# Altium schematic symbol library SensWearComponents.SchLib: 59 symbols (part 2 of 2)
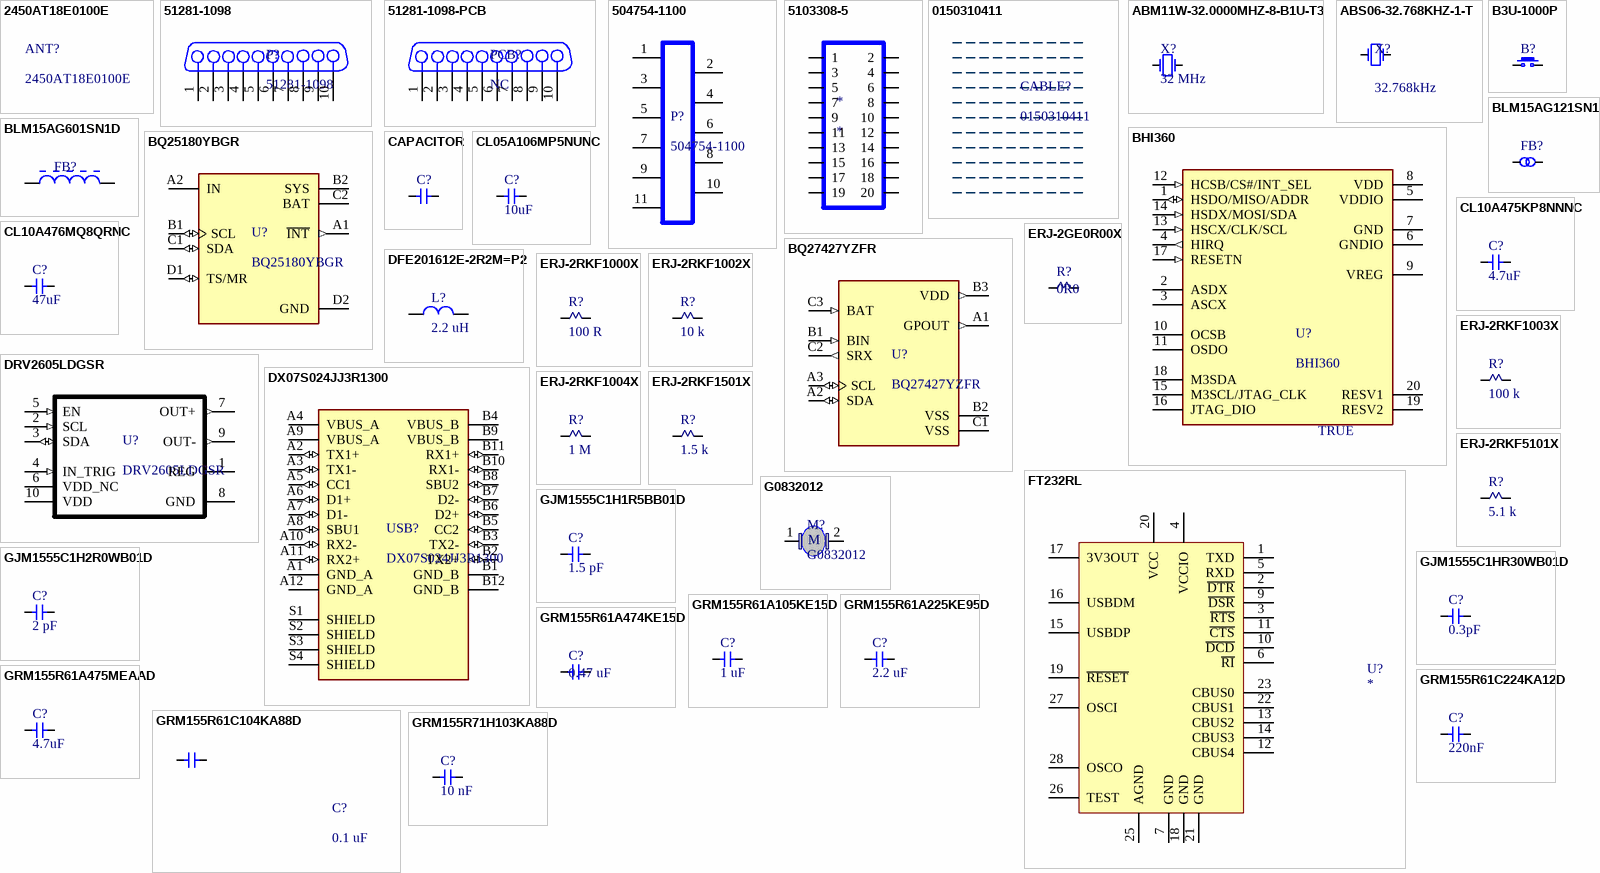
[diagram p2: symbols 2450AT18E0100E to GRM155R71H103KA88D]

## GRM155R61A475MEAAD
designator C?, comment 4.7uF
Multilayer Ceramic Capacitor, 4.7 uF, 10 V, ± 20%, X5R, 0402 [1005 Metric]; Manufacturer: Murata; Manufacturer Part Number: GRM155R61A475MEAAD; Material: 4241ConductorMaterial; Voltage Rating: 10V; Dielectric: 1537DielectricType; RoHS: Yes; Category: Ceramic Capacitors; Stock: 930000; Pricing: 10000=0,0187, 50000=0,0159, 100000=0,0132 (USD); Mounting Technology: Surface Mount; Case/Package: 0402; Case Code (Imperial): 0402; Case Code (Metric): 1005; Min Operating Temperature: -55°C; Max Operating Temperature: 85°C; Packaging: Tape and Reel; Value: 4.7uF; Tolerance: 20%; Series: GRM; Voltage Rating (DC): 10V; Length: 1mm; Width: 500um; Height: 650um; Thickness: 500um; RoHS Compliant: Yes; ComponentLink1URL: http://www.farnell.com/datasheets/2189109.pdf?src-supplier=Farnell; ComponentLink1Description: http://www.farnell.com/datasheets/2189109.pdf?src-supplier=Farnell; ComponentLink2URL: http://www.farnell.com/datasheets/2189109.pdf?src-supplier=Newark; ComponentLink2Description: http://www.farnell.com/datasheets/2189109.pdf?src-supplier=Newark; ComponentLink3URL: http://www.farnell.com/datasheets/2189109.pdf?src-supplier=Element14; ComponentLink3Description: http://www.farnell.com/datasheets/2189109.pdf?src-supplier=Element14; ComponentLink4URL: http://datasheet.octopart.com/GRM155R61A475MEAAD-Murata-datasheet-68589269.pdf?src-supplier=Distrelec; ComponentLink4Description: http://datasheet.octopart.com/GRM155R61A475MEAAD-Murata-datasheet-68589269.pdf?src-supplier=Distrelec; ComponentLink5URL: http://datasheet.octopart.com/GRM155R61A475MEAAD-Murata-datasheet-68589269.pdf?src-supplier=Farnell; ComponentLink5Description: http://datasheet.octopart.com/GRM155R61A475MEAAD-Murata-datasheet-68589269.pdf?src-supplier=Farnell; ComponentLink6URL: https://search.murata.co.jp/Ceramy/image/img/A01X/G101/ENG/GRM155R61A475MEAA-01.pdf?src-supplier=Digi-Key; ComponentLink6Description: https://search.murata.co.jp/Ceramy/image/img/A01X/G101/ENG/GRM155R61A475MEAA-01.pdf?src-supplier=Digi-Key; ComponentLink7URL: http://datasheet.octopart.com/GRM155R61A475MEAAD-Murata-datasheet-68589269.pdf?src-supplier=Future+Electronics; ComponentLink7Description: http://datasheet.octopart.com/GRM155R61A475MEAAD-Murata-datasheet-68589269.pdf?src-supplier=Future+Electronics; ComponentLink8URL: https://datasheet.octopart.com/GRM155R61A475MEAAD-Murata-datasheet-68589269.pdf?src-supplier=Newark; ComponentLink8Description: https://datasheet.octopart.com/GRM155R61A475MEAAD-Murata-datasheet-68589269.pdf?src-supplier=Newark; ComponentLink9URL: http://datasheet.octopart.com/GRM155R61A475MEAAD-Murata-datasheet-68589269.pdf?src-supplier=Verical; ComponentLink9Description: http://datasheet.octopart.com/GRM155R61A475MEAAD-Murata-datasheet-68589269.pdf?src-supplier=Verical; ComponentLink10URL: https://datasheet.octopart.com/GRM155R61A475MEAAD-Murata-datasheet-165579666.pdf?src-supplier=TME; ComponentLink10Description: https://datasheet.octopart.com/GRM155R61A475MEAAD-Murata-datasheet-165579666.pdf?src-supplier=TME; ComponentLink11URL: http://datasheet.octopart.com/GRM155R61A475MEAAD-Murata-datasheet-68589269.pdf?src-supplier=Quest; ComponentLink11Description: http://datasheet.octopart.com/GRM155R61A475MEAAD-Murata-datasheet-68589269.pdf?src-supplier=Quest; ComponentLink12URL: http://datasheet.octopart.com/GRM155R61A475MEAAD-Murata-datasheet-68589269.pdf?src-supplier=TTI; ComponentLink12Description: http://datasheet.octopart.com/GRM155R61A475MEAAD-Murata-datasheet-68589269.pdf?src-supplier=TTI; ComponentLink13URL: http://datasheet.octopart.com/GRM155R61A475MEAAD-Murata-datasheet-68589269.pdf?src-supplier=NAC+Semi; ComponentLink13Description: http://datasheet.octopart.com/GRM155R61A475MEAAD-Murata-datasheet-68589269.pdf?src-supplier=NAC+Semi; Supplier 1: Mouser; Supplier Part Number 1: 81-GRM155R61A475MEAD; Supplier 2: Farnell; Supplier Part Number 2: 3581674
footprint CAPC1005X05N (Chip Capacitor, 2-Leads, Body 1.00x0.50mm, IPC Medium Density)
pins: 1, 2

## GRM155R61C104KA88D
designator C?, comment 0.1 uF
CAP CER 0.1UF 16V X5R 0402; Manufacturer: Murata Electronics; Manufacturer Part Number: GRM155R61C104KA88D; Tolerance: 10 %; Type: Chip Multilayer Ceramic Capacitor for General Purpose; Voltage Rating DC: 16 VDC; Capacitance - nF: 100 nF; Capacitance - pF: 100000 pF; RoHS: RoHS Compliant; Category: Multilayer Ceramic Capacitors MLCC - SMD/SMT; Stock: 0; Pricing: 1=0.082, 10=0.026, 100=0.011, 500=0.008, 1000=0.007, 2500=0.006, 5000=0.005, 10000=0.004 (EUR); Capacitance: 0.1 uF; Height: 0.5 mm; Length: 1 mm; Package / Case: 0402 (1005 metric); Packaging: Cut Tape; Product: General Type MLCCs; Series: GRM; Termination Style: SMD/SMT; Width: 0.5 mm; Brand: Murata Electronics; Case Code - in: 0402; Case Code - mm: 1005; Dielectric: X5R; Maximum Operating Temperature: + 85 C; Minimum Operating Temperature: - 55 C; Standard Pack Qty: 10000; Termination: Standard; RoHS - Mouser: Y; Minimum Order Quantity: 1; Reeling: True; ComponentLink1URL: http://www.mouser.com/datasheet/2/281/murata_03052018_GRM_Series_1-1310166.pdf; ComponentLink1Description: http://www.mouser.com/datasheet/2/281/murata_03052018_GRM_Series_1-1310166.pdf; Value: 0.1 uF; Supplier 1: Mouser; Supplier Part Number 1: 81-GRM155R61C104KA8D; Supplier 2: Digikey; Supplier Part Number 2: 490-5415-1-ND; Supplier 3: Digikey; Supplier Part Number 3: 490-5415-6-ND
footprint CAPC1005X05N (Chip Capacitor, 2-Leads, Body 1.00x0.50mm, IPC Medium Density)
pins: 1, 2

## GRM155R61C224KA12D
designator C?, comment 220nF
CAP CER 0.22UF 16V X5R 0402; Manufacturer: Murata; Manufacturer Part Number: GRM155R61C224KA12D; Supplier: Mouser; Supplier Part Number: 81-GRM155R61C224KA2D; RoHS: Yes; Category: Ceramic Capacitors; Stock: 8589; Pricing: 1=0.1, 10=0.043, 50=0.043, 100=0.026, 1000=0.017, 10000=0.009 (USD); Lead Free: 5697LeadFree; ComponentLink1URL: http://www.mouser.com/ds/2/281/c02e-2905.pdf?src-supplier=Mouser; ComponentLink1Description: http://www.mouser.com/ds/2/281/c02e-2905.pdf?src-supplier=Mouser; ComponentLink2URL: https://www.murata.com/~/media/webrenewal/support/library/catalog/products/capacitor/mlcc/c02e.ashx?la=en-us&src-supplier=Digikey; ComponentLink2Description: https://www.murata.com/~/media/webrenewal/support/library/catalog/products/capacitor/mlcc/c02e.ashx?la=en-us&src-supplier=Digikey; ComponentLink3URL: http://search.murata.co.jp/Ceramy/image/img/A01X/G101/ENG/GRM155R61C224KA12-01.pdf?src-supplier=Digikey; ComponentLink3Description: http://search.murata.co.jp/Ceramy/image/img/A01X/G101/ENG/GRM155R61C224KA12-01.pdf?src-supplier=Digikey; ComponentLink4URL: http://search.murata.co.jp/Ceramy/image/img/A01X/partnumbering_e_01.pdf?src-supplier=Digikey; ComponentLink4Description: http://search.murata.co.jp/Ceramy/image/img/A01X/partnumbering_e_01.pdf?src-supplier=Digikey; ComponentLink5URL: https://datasheet.octopart.com/GRM155R61C224KA12D-Murata-datasheet-22122223.pdf?src-supplier=Future+Electronics; ComponentLink5Description: https://datasheet.octopart.com/GRM155R61C224KA12D-Murata-datasheet-22122223.pdf?src-supplier=Future+Electronics; Value: 220nF; Supplier 1: Mouser; Supplier Part Number 1: 81-GRM155R61C224KA2D; Supplier 2: Digikey; Supplier Part Number 2: 490-11416-1-ND
footprint CAPC1005X05N (Chip Capacitor, 2-Leads, Body 1.00x0.50mm, IPC Medium Density)
pins: 1, 2

## GRM155R71H103KA88D
designator C?, comment 10 nF
CAP CER 10000PF 50V X7R 0402; Manufacturer: Murata Electronics North America; Manufacturer Part Number: GRM155R71H103KA88D; Tolerance: ±10%; Supplier 1: Digi-Key; RoHS: RoHS Compliant; Category: Capacitors; Stock 1: 7217649; Pricing 1: 1=0.11, 50=0.0056, 100=0.0047, 250=0.00384, 500=0.0033, 1000=0.00256, 5000=0.00213 (GBP); Packaging: Digi-Reel®; Part Status: Active; Capacitance: 10000pF; Voltage - Rated: 50V; Temperature Coefficient: X7R; Mounting Type: Surface Mount, MLCC; Operating Temperature: -55°C ~ 125°C; Applications: General Purpose; Ratings: -; Package / Case: 0402 (1005 Metric); Size / Dimension: 0.039" L x 0.020" W (1.00mm x 0.50mm); Height - Seated (Max): -; Thickness (Max): 0.022" (0.55mm); Lead Spacing: -; Features: -; Lead Style: -; ComponentLink1URL: http://www.murata.com/~/media/webrenewal/support/library/catalog/products/capacitor/mlcc/c02e.pdf; ComponentLink1Description: http://www.murata.com/~/media/webrenewal/support/library/catalog/products/capacitor/mlcc/c02e.pdf; Supplier Part Number 1: 490-4516-6-ND; Value: 10 nF
footprint CAPC1005X05N (Chip Capacitor, 2-Leads, Body 1.00x0.50mm, IPC Medium Density)
signal-integrity model Model Name (Model Description)
pins: 1, 2

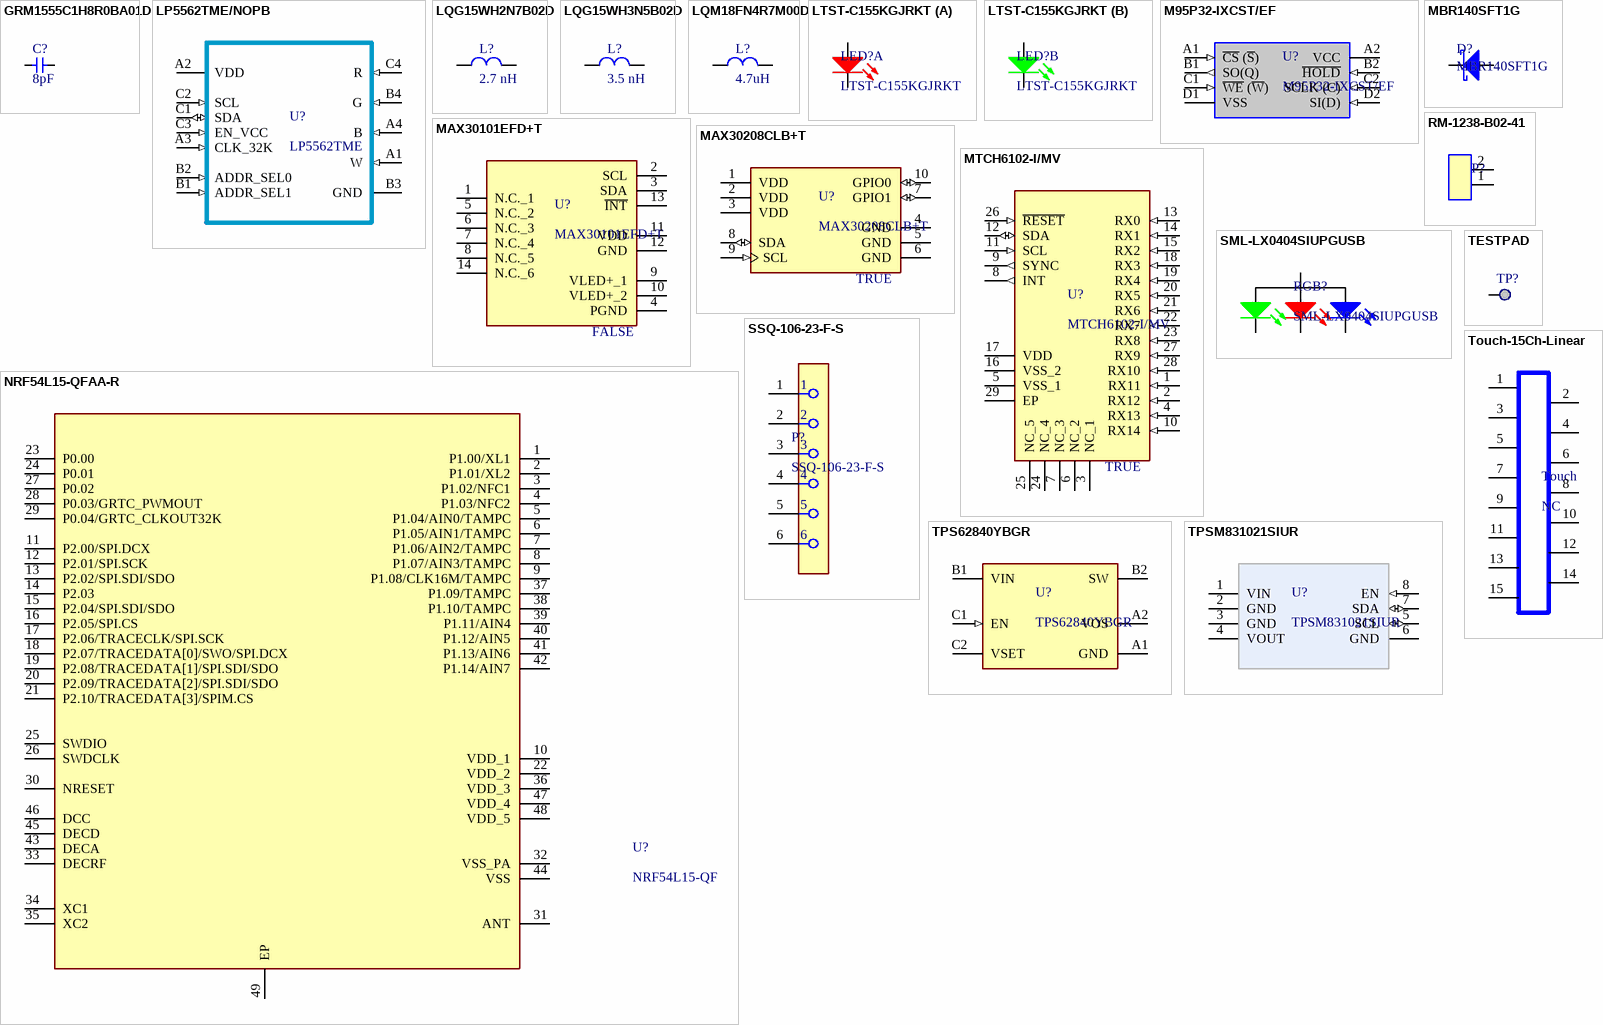
[diagram p1: symbols GRM1555C1H8R0BA01D to TPSM831021SIUR]

## GRM1555C1H8R0BA01D
designator C?, comment 8pF
Multilayer Ceramic Capacitors MLCC - SMD/SMT 0402 8.0pF 50volts C0G +/-0.05pF; Manufacturer: Murata; Manufacturer Part Number: GRM1555C1H8R0BA01D; Voltage Rating: 50V; Supplier: Digi-Key; Supplier Part Number: 490-8230-1-ND; RoHS: Yes; Category: Ceramic Capacitors; Stock: 671988; Pricing: 1=0,1, 10=0,051, 50=0,0278, 100=0,0227, 500=0,01624, 1000=0,01276, 2500=0,0116, 5000=0,01067 (USD); Mounting Technology: Surface Mount; Case/Package: 0402; Case Code (Metric): 1005; Case Code (Imperial): 0402; Min Operating Temperature: -55°C; Max Operating Temperature: 125°C; Value: 8pF; Package Quantity: 1; Packaging: Tape and Reel; Series: GRM; Termination: SMD/SMT; Voltage Rating (DC): 50V; Dielectric: C0G; Construction: Flat; Length: 1mm; Width: 0.02inch; Height: 0.5mm; Thickness: 0.022inch; Depth: 0.5mm; Radiation Hardening: No; RoHS Compliant: Yes; Lead Free: Lead Free; ComponentLink1URL: https://datasheet.ciiva.com/18184/getdatasheetpartid-319021-18184500.pdf?src-supplier=Verical; ComponentLink1Description: https://datasheet.ciiva.com/18184/getdatasheetpartid-319021-18184500.pdf?src-supplier=Verical; ComponentLink2URL: https://datasheet.ciiva.com/6263/grm1555c1h820ga01-01-6263780.pdf?src-supplier=Digi-Key; ComponentLink2Description: https://datasheet.ciiva.com/6263/grm1555c1h820ga01-01-6263780.pdf?src-supplier=Digi-Key; ComponentLink3URL: https://datasheet.ciiva.com/5432/product-5432205.pdf?src-supplier=Mouser; ComponentLink3Description: https://datasheet.ciiva.com/5432/product-5432205.pdf?src-supplier=Mouser; ComponentLink4URL: https://datasheet.ciiva.com/11610/product-11610151.pdf?src-supplier=Avnet; ComponentLink4Description: https://datasheet.ciiva.com/11610/product-11610151.pdf?src-supplier=Avnet; ComponentLink5URL: https://datasheet.ciiva.com/16495/c02e-16495287.pdf?src-supplier=Future+Electronics; ComponentLink5Description: https://datasheet.ciiva.com/16495/c02e-16495287.pdf?src-supplier=Future+Electronics; ComponentLink6URL: https://datasheet.ciiva.com/5442/product-5442458.pdf?src-supplier=Mouser; ComponentLink6Description: https://datasheet.ciiva.com/5442/product-5442458.pdf?src-supplier=Mouser; Supplier 1: Mouser; Supplier Part Number 1: 81-GRM1555C1H8R0BA1D; Supplier 2: Digikey; Supplier Part Number 2: 490-8230-1-ND; Supplier 3: Digikey; Supplier Part Number 3: 490-8230-6-ND
footprint CAPC1005X05N (Chip Capacitor, 2-Leads, Body 1.00x0.50mm, IPC Medium Density)
pins: 1, 2

## LP5562TME/NOPB
designator U?, comment LP5562TME
IC LED DRIVER LINEAR DIM 25.5MA; Manufacturer: Texas Instruments; Manufacturer Part Number: LP5562TME/NOPB; Internal Switch(s): Yes; Number of Outputs: 4; Voltage - Supply (Min): 2.7V; Voltage - Supply (Max): 5.5V; Frequency: 256kHz, 558kHz; Dimming: I²C; Supplier 1: Digi-Key; RoHS: RoHS Compliant; Category: Integrated Circuits (ICs); Stock 1: 4154; Pricing 1: 1=1.34, 10=1.195, 100=0.9314 (USD); Packaging: Digi-Reel®; Part Status: Active; Type: Linear; Topology: -; Voltage - Output: -; Current - Output / Channel: 25.5mA; Applications: Backlight; Operating Temperature: -40°C ~ 85°C (TA); Mounting Type: Surface Mount; Package / Case: 12-WFBGA, DSBGA; Supplier Device Package: 12-DSBGA; ComponentLink1URL: http://www.ti.com/lit/ds/symlink/lp5562.pdf; ComponentLink1Description: http://www.ti.com/lit/ds/symlink/lp5562.pdf; Supplier Part Number 1: 296-39060-6-ND
footprint BGA12C40P4X3_162X122X68 (BGA, 12-Leads, Body 1.62x1.22mmx0.68mm, Pitch 0.40mm)
pins: A1 W (in), A2 VDD (power), A3 CLK_32K (in), A4 B (in), B1 ADDR_SEL1 (in), B2 ADDR_SEL0 (in), B3 GND (power), B4 G (in), C1 SDA (io), C2 SCL (in), C3 EN_VCC (in), C4 R (in)

## LQG15WH2N7B02D
designator L?, comment 2.7 nH
Inductor Chip 2.7nH 0.1nH Tolerance 2-Pin 0402 Paper T/R; Manufacturer: Murata; Manufacturer Part Number: LQG15WH2N7B02D; Supplier: Mouser; Supplier Part Number: 81-LQG15WH2N7B02D; RoHS: Yes; Category: Fixed Inductors; Stock: 6000; Pricing: 1=0.2, 10=0.161, 50=0.141, 100=0.133, 1000=0.109, 10000=0.088 (USD); Value: 2.7 nH; Supplier 1: Mouser; Supplier Part Number 1: 81-LQG15WH2N7B02D; Supplier 2: Digikey; Supplier Part Number 2: 490-LQG15WH2N7B02DDKR-ND; Supplier 3: Digikey; Supplier Part Number 3: 490-LQG15WH2N7B02DCT-ND
footprint INDC1005X06N (Chip Inductor, 2-Leads, Body 1.00x0.50mm, IPC Medium Density)
pins: 1, 2

## LQG15WH3N5B02D
designator L?, comment 3.5 nH
Inductor Chip 3.5nH 0.1nH Tolerance 2-Pin 0402 Paper T/R; Manufacturer: Murata; Manufacturer Part Number: LQG15WH3N5B02D; Supplier: Mouser; Supplier Part Number: 81-LQG15WH3N5B02D; RoHS: Yes; Category: Fixed Inductors; Stock: 9594; Pricing: 1=0.24, 10=0.187, 50=0.187, 100=0.146, 1000=0.113, 10000=0.09 (USD); Supplier 1: Mouser; Supplier Part Number 1: 81-LQG15WH3N5B02D; Supplier 2: Farnell; Supplier Part Number 2: 3639288; Supplier 3: Farnell; Supplier Part Number 3: 3639288RL; Value: 3.5 nH
footprint INDC1005X06N (Chip Inductor, 2-Leads, Body 1.00x0.50mm, IPC Medium Density)
pins: 1, 2

## LQM18FN4R7M00D
designator L?, comment 4.7uH
Inductor Power Chip Shielded Multi-Layer 4.7uH 20% 1MHz Ferrite 0.08A 0.78Ohm DCR 0603 T/R; Manufacturer: Murata; Manufacturer Part Number: LQM18FN4R7M00D; Manufacturer Lifecycle Status: ACTIVE; Self Resonant Frequency: 50MHz; DC Resistance (DCR): 600mR; Current Rating: 80mA; Average Rectified Current: 500mA; Element Configuration: Single; Forward Voltage: 460mV; Max Forward Surge Current (Ifsm): 10A; Max Junction Temperature (Tj): 150°C; Max Power Dissipation: 1.3W; Max Repetitive Reverse Voltage (Vrrm): 40V; Max Reverse Leakage Current: 15µA; Number of Elements: 1; Peak Reverse Current: 75µA; ESR: 780mΩ; Supplier: Mouser; Supplier Part Number: 81-LQM18FN4R7M00D; RoHS: Yes; Category: Fixed Inductors; Stock: 677; Pricing: 1=0.13, 10=0.11, 50=0.11, 100=0.091, 1000=0.075, 10000=0.06 (USD); Mounting Technology: Surface Mount; Case/Package: 0603; Core Material: Ferrite; Case Code (Metric): 1608; Case Code (Imperial): 0603; Weight: 7.1E-05oz; Min Operating Temperature: -55°C; Max Operating Temperature: 125°C; Tolerance: 20%; Shielding: Shielded; Packaging: Tape and Reel; Value: 4.7uH; Test Frequency: 1MHz; Series: LQM18F; Package Quantity: 1; Saturation Current: 80mA; Max DC Current: 80mA; Termination: SMD/SMT; DC Current: 80mA; Max Current Rating: 80mA; Length: 1.6mm; Width: 0.031inch; Height: 0.8mm; Height - Seated (Max): 0.035inch; Depth: 0.9mm; RoHS Compliant: Yes; Military Standard: Not; Lead Free: Lead Free; ComponentLink1URL: https://datasheet.ciiva.com/30489/0900766b812560c4-30489024.pdf?src-supplier=Rs; ComponentLink1Description: https://datasheet.ciiva.com/30489/0900766b812560c4-30489024.pdf?src-supplier=Rs; ComponentLink2URL: https://datasheet.ciiva.com/1039/l0075s0097lqm18f-1039394.pdf?src-supplier=Digikey; ComponentLink2Description: https://datasheet.ciiva.com/1039/l0075s0097lqm18f-1039394.pdf?src-supplier=Digikey; ComponentLink3URL: https://datasheet.ciiva.com/1039/l0075s0097lqm18f-1039393.pdf?src-supplier=Digikey; ComponentLink3Description: https://datasheet.ciiva.com/1039/l0075s0097lqm18f-1039393.pdf?src-supplier=Digikey; ComponentLink4URL: https://datasheet.ciiva.com/1039/l0075s0097lqm18f-1039395.pdf?src-supplier=Digikey; ComponentLink4Description: https://datasheet.ciiva.com/1039/l0075s0097lqm18f-1039395.pdf?src-supplier=Digikey; ComponentLink5URL: https://datasheet.ciiva.com/3082/l0075s0097lqm18f-3082197.pdf?src-supplier=Avnet; ComponentLink5Description: https://datasheet.ciiva.com/3082/l0075s0097lqm18f-3082197.pdf?src-supplier=Avnet; ComponentLink6URL: https://datasheet.ciiva.com/16390/l0075s0097lqm18f-16390346.pdf?src-supplier=Future+Electronics; ComponentLink6Description: https://datasheet.ciiva.com/16390/l0075s0097lqm18f-16390346.pdf?src-supplier=Future+Electronics; Supplier 1: Mouser; Supplier Part Number 1: 81-LQM18FN4R7M00D; Supplier 2: Digikey; Supplier Part Number 2: 490-4024-1-ND; Supplier 3: Digikey; Supplier Part Number 3: 490-4024-6-ND; China RoHS: Compliant; Contact Plating: Tin; Forward Current: 500mA; Lifecycle Status: Production; Max Output current: 500mA; Max Reverse Voltage (DC): 40V; Max Surge Current: 10A; Min Breakdown Voltage: 40V; Pins: 2; Number of Terminals: 2; Peak Non-Repetitive Surge Current: 10A; Radiation Hardening: No; REACH SVHC: Yes; Reverse Standoff Voltage: 40V; Reverse Voltage: 40V; Schedule B: 8541100070, 8541100070|8541100070|8541100070|8541100070|8541100070; ComponentLink7URL: https://datasheet.octopart.com:443/NSR05F40NXT5G-ON-Semiconductor-datasheet-94104276.pdf?src-supplier=JRH+Electronics; ComponentLink7Description: https://datasheet.octopart.com:443/NSR05F40NXT5G-ON-Semiconductor-datasheet-94104276.pdf?src-supplier=JRH+Electronics; ComponentLink8URL: https://datasheet.octopart.com:443/NSR05F40NXT5G-onsemi-datasheet-180967270.pdf?src-supplier=IHS; ComponentLink8Description: https://datasheet.octopart.com:443/NSR05F40NXT5G-onsemi-datasheet-180967270.pdf?src-supplier=IHS; ComponentLink9URL: https://sigma.octopart.com:443/142493867/technical_drawing/ON-Semiconductor-NSR05F40NXT5G.pdf?src-supplier=Upverter; ComponentLink9Description: https://sigma.octopart.com:443/142493867/technical_drawing/ON-Semiconductor-NSR05F40NXT5G.pdf?src-supplier=Upverter; ComponentLink10URL: https://datasheet.octopart.com:443/NSR05F40NXT5G-ON-Semiconductor-datasheet-37177440.pdf?src-supplier=Future+Electronics; ComponentLink10Description: https://datasheet.octopart.com:443/NSR05F40NXT5G-ON-Semiconductor-datasheet-37177440.pdf?src-supplier=Future+Electronics; ComponentLink11URL: https://datasheet.octopart.com:443/NSR05F40NXT5G-ON-Semiconductor-datasheet-11745561.pdf?src-supplier=element14+APAC; ComponentLink11Description: https://datasheet.octopart.com:443/NSR05F40NXT5G-ON-Semiconductor-datasheet-11745561.pdf?src-supplier=element14+APAC; ComponentLink12URL: https://datasheet.octopart.com:443/NSR05F40NXT5G-onsemi-datasheet-157596273.pdf?src-supplier=TME; ComponentLink12Description: https://datasheet.octopart.com:443/NSR05F40NXT5G-onsemi-datasheet-157596273.pdf?src-supplier=TME; ComponentLink13URL: http://sigma.octopart.com:80/150628044/rohs_statement/ON-Semiconductor-NSR05F40NXT5G.pdf?src-supplier=Compliance+Statements; ComponentLink13Description: http://sigma.octopart.com:80/150628044/rohs_statement/ON-Semiconductor-NSR05F40NXT5G.pdf?src-supplier=Compliance+Statements; ComponentLink14URL: http://sigma.octopart.com:80/reach_statement/ON-Semiconductor-company-79.pdf?src-supplier=Compliance+Statements; ComponentLink14Description: http://sigma.octopart.com:80/reach_statement/ON-Semiconductor-company-79.pdf?src-supplier=Compliance+Statements; ComponentLink15URL: https://octopart.com:443/opatz8j6/c1?t=Uq4oP0XYW20rA7GHSBTJXxRF7eBdr4oxj12W_Ow5ZQAQn3aEDntsR0v86sH67Y1VYL5Qd9r7fRzpz2SYouYyA9JWBfabzTk58wY7bKwJhLgZjmWKK4ZrC-dHOp6ai5rBi6r7DXU3w6lacVIfvaDn2nRF9UvHTuHHr9E3jzJFHL2pmpzCgrd95MfAU6WRjEqPrH4FXmi5Pb5vezZnW2ixtA-n7Il4BdWyE0xwS-HrM7RWY8bZfc2VlpjgXKB69n0rSfU3KsfeR3bp8yru8gdBl9cDCMeIg9t034yDtaHrjWpzFh7BGxEtGBfDY3iFXfrKSjB-Z7YETzzcCTzQSl0QWI7OlnwEF9Yev97QIn5lCD4&src-supplier=Compliance+Statements; ComponentLink15Description: https://octopart.com:443/opatz8j6/c1?t=Uq4oP0XYW20rA7GHSBTJXxRF7eBdr4oxj12W_Ow5ZQAQn3aEDntsR0v86sH67Y1VYL5Qd9r7fRzpz2SYouYyA9JWBfabzTk58wY7bKwJhLgZjmWKK4ZrC-dHOp6ai5rBi6r7DXU3w6lacVIfvaDn2nRF9UvHTuHHr9E3jzJFHL2pmpzCgrd95MfAU6WRjEqPrH4FXmi5Pb5vezZnW2ixtA-n7Il4BdWyE0xwS-HrM7RWY8bZfc2VlpjgXKB69n0rSfU3KsfeR3bp8yru8gdBl9cDCMeIg9t034yDtaHrjWpzFh7BGxEtGBfDY3iFXfrKSjB-Z7YETzzcCTzQSl0QWI7OlnwEF9Yev97QIn5lCD4&src-supplier=Compliance+Statements; ComponentLink16URL: https://octopart.com:443/opatz8j6/c1?t=tOMwwjJdKrMCwwp9xDXBgZ8DJoU_ElaTzUGOgd_zZExvTTC0p2NYJW3NlBnhz5vf_HXY9LJ17f1o9pBU_tcUnujW_Yxlprmd2-sSoR96ke0Q8YbgF19hBsAJQWJxEiKYx35u9p3RsTvb0HgNXHPMjTb1dZ8WyWhX8zQvkz3pewxX8C7MxnfqoNUS5V31fEqnYepoV_6IM_4K9PSSvd1Oj8BtQ1Cn5zO6iYOB9Eq_KnshKwZS0MVEEWCWsRMCFOTvi-Nc5U63y5iUW2btnkkl7e38_9u1deLWq8gsS2jWLNyNz5NsbtUkrAQjDqhF1ZfhZmjirHTwNQnQ7j0N6RbRGNLHDdWnOo0xcrVv93vy-P5A&src-supplier=Compliance+Statements; ComponentLink16Description: https://octopart.com:443/opatz8j6/c1?t=tOMwwjJdKrMCwwp9xDXBgZ8DJoU_ElaTzUGOgd_zZExvTTC0p2NYJW3NlBnhz5vf_HXY9LJ17f1o9pBU_tcUnujW_Yxlprmd2-sSoR96ke0Q8YbgF19hBsAJQWJxEiKYx35u9p3RsTvb0HgNXHPMjTb1dZ8WyWhX8zQvkz3pewxX8C7MxnfqoNUS5V31fEqnYepoV_6IM_4K9PSSvd1Oj8BtQ1Cn5zO6iYOB9Eq_KnshKwZS0MVEEWCWsRMCFOTvi-Nc5U63y5iUW2btnkkl7e38_9u1deLWq8gsS2jWLNyNz5NsbtUkrAQjDqhF1ZfhZmjirHTwNQnQ7j0N6RbRGNLHDdWnOo0xcrVv93vy-P5A&src-supplier=Compliance+Statements; Number of Circuits: 1; RMS Current (Irms): 80mA; ComponentLink17URL: https://datasheet.octopart.com:443/LQM18FN4R7M00D-Murata-datasheet-11731136.pdf?src-supplier=_legacy+Avnet; ComponentLink17Description: https://datasheet.octopart.com:443/LQM18FN4R7M00D-Murata-datasheet-11731136.pdf?src-supplier=_legacy+Avnet; ComponentLink18URL: https://datasheet.octopart.com:443/LQM18FN4R7M00D-Murata-datasheet-113139558.pdf?src-supplier=Ciiva; ComponentLink18Description: https://datasheet.octopart.com:443/LQM18FN4R7M00D-Murata-datasheet-113139558.pdf?src-supplier=Ciiva; ComponentLink19URL: https://datasheet.octopart.com:443/LQM18FN4R7M00D-Murata-datasheet-141287866.pdf?src-supplier=Ciiva; ComponentLink19Description: https://datasheet.octopart.com:443/LQM18FN4R7M00D-Murata-datasheet-141287866.pdf?src-supplier=Ciiva; ComponentLink20URL: https://datasheet.octopart.com:443/LQM18FN4R7M00D-Murata-datasheet-140714244.pdf?src-supplier=Ciiva; ComponentLink20Description: https://datasheet.octopart.com:443/LQM18FN4R7M00D-Murata-datasheet-140714244.pdf?src-supplier=Ciiva; ComponentLink21URL: https://datasheet.octopart.com:443/LQM18FN4R7M00D-Murata-datasheet-8328914.pdf?src-supplier=Future+Electronics; ComponentLink21Description: https://datasheet.octopart.com:443/LQM18FN4R7M00D-Murata-datasheet-8328914.pdf?src-supplier=Future+Electronics; ComponentLink22URL: https://datasheet.octopart.com:443/LQM18FN4R7M00D-Murata-datasheet-44660682.pdf?src-supplier=Future+Electronics; ComponentLink22Description: https://datasheet.octopart.com:443/LQM18FN4R7M00D-Murata-datasheet-44660682.pdf?src-supplier=Future+Electronics; ComponentLink23URL: https://datasheet.octopart.com:443/LQM18FN4R7M00D-Murata-datasheet-142045928.pdf?src-supplier=Arrow.cn; ComponentLink23Description: https://datasheet.octopart.com:443/LQM18FN4R7M00D-Murata-datasheet-142045928.pdf?src-supplier=Arrow.cn; ComponentLink24URL: https://datasheet.octopart.com:443/LQM18FN4R7M00D-Murata-datasheet-166300070.pdf?src-supplier=Arrow.cn; ComponentLink24Description: https://datasheet.octopart.com:443/LQM18FN4R7M00D-Murata-datasheet-166300070.pdf?src-supplier=Arrow.cn; ComponentLink25URL: https://datasheet.octopart.com:443/LQM18FN4R7M00D-Murata-datasheet-145450482.pdf?src-supplier=Geoflip; ComponentLink25Description: https://datasheet.octopart.com:443/LQM18FN4R7M00D-Murata-datasheet-145450482.pdf?src-supplier=Geoflip; ComponentLink26URL: https://datasheet.octopart.com:443/LQM18FN4R7M00D-Murata-datasheet-9818.pdf?src-supplier=DigiKey; ComponentLink26Description: https://datasheet.octopart.com:443/LQM18FN4R7M00D-Murata-datasheet-9818.pdf?src-supplier=DigiKey; ComponentLink27URL: https://datasheet.octopart.com/LQM18FN4R7M00D-Murata-datasheet-14392860.pdf; ComponentLink27Description: https://datasheet.octopart.com/LQM18FN4R7M00D-Murata-datasheet-14392860.pdf; ComponentLink28URL: http://sigma.octopart.com:80/reach_statement/Murata-company-16.pdf?src-supplier=Compliance+Statements; ComponentLink28Description: http://sigma.octopart.com:80/reach_statement/Murata-company-16.pdf?src-supplier=Compliance+Statements
footprint INDC1005X06N (Chip Inductor, 2-Leads, Body 1.00x0.50mm, IPC Medium Density)
pins: 1, 2

## LTST-C155KGJRKT
designator LED?
LED GREEN/RED CLEAR CHIP SMD; Manufacturer: Vishay Lite-On; Color: Green,Red; Lens Color: Colorless; Reverse Voltage: 5V; Wavelength: 639nm; Number of LEDs: 2; Forward Current: 30mA; Forward Voltage: 2V; Power Rating: 75mW; Luminous Intensity: 45mcd; Viewing Angle: 130°; Lens Style: Diffused,Colorless,Rectangular,Clear; Dominant Wavelength: 631nm; Test Current: 20mA; Supplier 1: Digi-Key; Supplier Part Number 1: 160-1409-1-ND; Manufacturer Part Number: LTST-C155KGJRKT; RoHS: Yes; Category: LEDs; Stock 1: 123598; Pricing 1: 1=0.43000, 10=0.28000, 100=0.18670, 500=0.12912, 1000=0.10760 (USD); Mount: Surface Mount; Case/Package: 1210; Number of Pins: 4; Case Code (Imperial): 1210; Case Code (Metric): 3225; Min Operating Temperature: -55°C; Max Operating Temperature: 85°C; Packaging: Tape and Reel; Package Quantity: 1; Illumination Color: Green,Red; Lens Transparency: Clear; Number of Elements: 2; Power Dissipation: 75mW; Max Power Dissipation: 75mW; Length: 2.7mm; Width: 2.7mm; Height: 1.1mm; Depth: 3.2mm; Radiation Hardening: No; Lead Free: Lead Free; ComponentLink1URL: https://datasheet.ciiva.com/11774/0900766b80dc0273-11774195.pdf?src-supplier=RSComponents; ComponentLink1Description: https://datasheet.ciiva.com/11774/0900766b80dc0273-11774195.pdf?src-supplier=RSComponents; ComponentLink2URL: https://datasheet.ciiva.com/15117/getdatasheetpartid-103641-15117440.pdf?src-supplier=Verical; ComponentLink2Description: https://datasheet.ciiva.com/15117/getdatasheetpartid-103641-15117440.pdf?src-supplier=Verical; ComponentLink3URL: https://datasheet.ciiva.com/16366/lite-on20ltst-c155kgjrkt-16366147.pdf?src-supplier=Future+Electronics; ComponentLink3Description: https://datasheet.ciiva.com/16366/lite-on20ltst-c155kgjrkt-16366147.pdf?src-supplier=Future+Electronics; ComponentLink4URL: https://datasheet.ciiva.com/27051/1260277-27051786.pdf?src-supplier=Jameco; ComponentLink4Description: https://datasheet.ciiva.com/27051/1260277-27051786.pdf?src-supplier=Jameco; ComponentLink5URL: https://datasheet.ciiva.com/2110/s-110-ltst-c155kgjrkt-2110800.pdf?src-supplier=Digi-Key; ComponentLink5Description: https://datasheet.ciiva.com/2110/s-110-ltst-c155kgjrkt-2110800.pdf?src-supplier=Digi-Key; ComponentLink6URL: https://datasheet.ciiva.com/2110/s-110-ltst-c155kgjrkt-2110801.pdf?src-supplier=Digi-Key; ComponentLink6Description: https://datasheet.ciiva.com/2110/s-110-ltst-c155kgjrkt-2110801.pdf?src-supplier=Digi-Key
footprint LTST-C155KGJRKT
part A pins: 2 A, 4 K
part B pins: 1 A, 3 K

## M95P32-IXCST/EF
designator U?
M95P32-I Series 32 Mb (4 M x 8) 80 MHz SPI EEPROM Memory IC - WLCSP-8; Manufacturer: STMicroelectronics; Supplier: Digikey; Supplier Part Number: 497-M95P32-IXCST/EFDKR-ND; Manufacturer Part Number: M95P32-IXCST/EF; RoHS: No; Category: Memory; Stock: 9222; Pricing: 1=2.68, 10=2.409, 25=2.2724, 100=1.9362, 250=1.818, 500=1.59076, 1000=1.31805, 2500=1.22715 (USD); Supplier 1: Mouser; Supplier Part Number 1: 511-M95P32-IXCST/EF; Supplier 2: Digikey; Supplier Part Number 2: 497-M95P32-IXCST/EFCT-ND
footprint BGA8C70P2X4_153X261X58 (BGA, 8-Leads, Body 1.53x2.61mmx0.58mm, Pitch 0.70mm)
pins: A1 ~{CS} (~{S}) (in), A2 VCC (power), B1 SO(Q) (out), B2 ~{HOLD} (in), C1 ~{WE} (~{W}) (in), C2 SCLK (C) (in), D1 VSS (power), D2 SI(D) (in)

## MAX30101EFD+T
designator U?  Checked: FALSE
High-Sensitivity Pulse Oximeter and Heart-Rate Sensor for Fitness & Healthcare; Manufacturer: Maxim; Output Type: I2C; Supplier: Digikey; Supplier Part Number: MAX30101EFD+TCT-ND; Manufacturer Part Number: MAX30101EFD+T; RoHS: Yes; Category: Sensors; Stock: 1955; Pricing: 1=11.32, 10=10.228, 25=9.752, 100=8.4676, 250=8.08708, 500=7.3735, 1000=6.42208 (USD); Min Operating Temperature: -40°C; Max Operating Temperature: 85°C; Series: -; Packaging: Cut Tape; RoHS Compliant: Yes; ComponentLink1URL: https://datasheets.maximintegrated.com/en/ds/MAX30101.pdf?src-supplier=Digikey; ComponentLink1Description: https://datasheets.maximintegrated.com/en/ds/MAX30101.pdf?src-supplier=Digikey; Supplier 1: Mouser; Supplier Part Number 1: 700-MAX30101EFD+T; Supplier 2: Digikey; Supplier Part Number 2: MAX30101EFD+TCT-ND; Supplier 3: Digikey; Supplier Part Number 3: MAX30101EFD+TDKR-ND
footprint 14-LEAD-OESIP
pins: 1 N.C._1, 2 SCL, 3 SDA, 4 PGND, 5 N.C._2, 6 N.C._3, 7 N.C._4, 8 N.C._5, 9 VLED+_1, 10 VLED+_2, 11 VDD, 12 GND, 13 ~{INT}, 14 N.C._6

## MAX30208CLB+T
designator U?  Checked: TRUE
I2C Digital Temperature Sensor Serial I2C 10-Pin Thin LGA T/R; Manufacturer: Maxim; Supplier: Mouser; Supplier Part Number: 700-MAX30208CLB+T; Manufacturer Part Number: MAX30208CLB+T; RoHS: Yes; Category: Temperature and Humidity Sensors; Stock: 16152; Pricing: 1=3.7, 10=2.9, 50=2.9, 100=2.69, 1000=2.11, 10000=1.97 (USD); Supplier 1: Mouser; Supplier Part Number 1: 700-MAX30208CLB+T; Supplier 2: Digikey; Supplier Part Number 2: 175-MAX30208CLB+TDKR-ND; Supplier 3: Digikey; Supplier Part Number 3: 175-MAX30208CLB+TTR-ND
footprint FP-L1022-2-MFG
pins: 1 VDD (power), 2 VDD (power), 3 VDD (power), 4 GND (power), 5 GND (power), 6 GND (power), 7 GPIO1 (io), 8 SDA (io), 9 SCL (in), 10 GPIO0 (io)

## MBR140SFT1G
designator D?
DIODE SCHOTTKY 40V 1A SOD123L; Manufacturer: ON Semiconductor; Voltage - Forward (Vf) (Max) @ If: 550mV @ 1A; Speed: Fast Recovery =< 500ns, > 200mA (Io); Current - Reverse Leakage @ Vr: 500µA @ 40V; Supplier 1: Digi-Key; Manufacturer Part Number: MBR140SFT1G; RoHS: RoHS Compliant; Category: Discrete Semiconductor Products; Stock 1: 29983; Pricing 1: 1=0.3, 10=0.23, 100=0.1431, 500=0.09782, 1000=0.07519 (GBP); Packaging: Digi-Reel®; Part Status: Active; Diode Type: Schottky; Voltage - DC Reverse (Vr) (Max): 40V; Current - Average Rectified (Io): 1A; Reverse Recovery Time (trr): -; Capacitance @ Vr, F: -; Mounting Type: Surface Mount; Package / Case: SOD-123F; Supplier Device Package: SOD-123L; Operating Temperature - Junction: -55°C ~ 125°C; ComponentLink1URL: http://www.onsemi.com/pub_link/Collateral/MBR140SFT1-D.PDF; ComponentLink1Description: http://www.onsemi.com/pub_link/Collateral/MBR140SFT1-D.PDF; Supplier Part Number 1: MBR140SFT1GOSDKR-ND
footprint SODFL360X110-2N (SODFL, 2-Leads, Body 1.65x3.60mm, IPC Medium Density)
signal-integrity model Model Name (Model Description)
pins: 1 cathode, 2 ANODE

## MTCH6102-I/MV
designator U?  Checked: TRUE
Capacitive Touch Screen Automotive 28-Pin UQFN EP Tube; Manufacturer: Microchip; Supplier: Digikey; Supplier Part Number: MTCH6102-I/MV-ND; Manufacturer Part Number: MTCH6102-I/MV; RoHS: Yes; Category: Touch Screen Controllers; Stock: 496; Pricing: 1=1.95, 25=1.8, 100=1.62 (USD); ComponentLink1URL: https://datasheet.ciiva.com/29355/filehandler-aspxddocname-en568912-29355091.pdf?src-supplier=Digikey; ComponentLink1Description: https://datasheet.ciiva.com/29355/filehandler-aspxddocname-en568912-29355091.pdf?src-supplier=Digikey; ComponentLink2URL: https://datasheet.ciiva.com/48495/40001750a-48495606.pdf?src-supplier=Avnet; ComponentLink2Description: https://datasheet.ciiva.com/48495/40001750a-48495606.pdf?src-supplier=Avnet; ComponentLink3URL: https://datasheet.ciiva.com/46405/1810724-46405963.pdf?src-supplier=Element14; ComponentLink3Description: https://datasheet.ciiva.com/46405/1810724-46405963.pdf?src-supplier=Element14; Supplier 1: Digikey; Supplier Part Number 1: MTCH6102-I/MV-ND; Supplier 2: Mouser; Supplier Part Number 2: 579-MTCH6102-I/MV; Supplier 3: Arrow Electronics; Supplier Part Number 3: MTCH6102-I/MV
footprint QFN40P400X400X55_HS-29N (QFN, 28-Leads, Body 4.00x4.00mm, Pitch 0.40mm, Thermal Pad 2.35x2.35mm, IPC Medium Density)
pins: 1 RX11 (in), 2 RX12 (in), 3 NC_1, 4 RX13 (in), 5 VSS_1 (power), 6 NC_2, 7 NC_3, 8 INT (out), 9 SYNC (out), 10 RX14 (in), 11 SCL (in), 12 SDA (io), 13 RX0 (in), 14 RX1 (in), 15 RX2 (in), 16 VSS_2 (power), 17 VDD (power), 18 RX3 (in), 19 RX4 (in), 20 RX5 (in), 21 RX6 (in), 22 RX7 (in), 23 RX8 (in), 24 NC_4, 25 NC_5, 26 ~{RESET} (in), 27 RX9 (in), 28 RX10 (in), 29 EP (power)

## NRF54L15-QFAA-R
designator U?, comment NRF54L15-QF
nRF54L15 SoC with Arm Cortex-M33 processor; Manufacturer: Nordic Semiconductor; Manufacturer Part Number: NRF54L15-QFAA-R; Supplier: Mouser; Supplier Part Number: 949-NRF54L15-QFAA-R; RoHS: No; Category: RF Receivers, Transceivers; Stock: 719; Pricing: 1=6.84, 10=6.11, 50=6.11, 100=5.02, 1000=3.62, 10000=3.07 (USD)
footprint QFN40P600X600X95-49N
pins: 1 P1.00/XL1, 2 P1.01/XL2, 3 P1.02/NFC1, 4 P1.03/NFC2, 5 P1.04/AIN0/TAMPC, 6 P1.05/AIN1/TAMPC, 7 P1.06/AIN2/TAMPC, 8 P1.07/AIN3/TAMPC, 9 P1.08/CLK16M/TAMPC, 10 VDD_1, 11 P2.00/SPI.DCX, 12 P2.01/SPI.SCK, 13 P2.02/SPI.SDI/SDO, 14 P2.03, 15 P2.04/SPI.SDI/SDO, 16 P2.05/SPI.CS, 17 P2.06/TRACECLK/SPI.SCK, 18 P2.07/TRACEDATA[0]/SWO/SPI.DCX, 19 P2.08/TRACEDATA[1]/SPI.SDI/SDO, 20 P2.09/TRACEDATA[2]/SPI.SDI/SDO, 21 P2.10/TRACEDATA[3]/SPIM.CS, 22 VDD_2, 23 P0.00, 24 P0.01, 25 SWDIO, 26 SWDCLK, 27 P0.02, 28 P0.03/GRTC_PWMOUT, 29 P0.04/GRTC_CLKOUT32K, 30 NRESET, 31 ANT, 32 VSS_PA, 33 DECRF, 34 XC1, 35 XC2, 36 VDD_3, 37 P1.09/TAMPC, 38 P1.10/TAMPC, 39 P1.11/AIN4, 40 P1.12/AIN5, 41 P1.13/AIN6, 42 P1.14/AIN7, 43 DECA, 44 VSS, 45 DECD, 46 DCC, 47 VDD_4, 48 VDD_5, 49 EP

## RM-1238-B02-41
designator P?  (value not drawn)
RM-1238-B02-41 by www.xtpogopin.com; Manufacturer: XTPogoPin; Manufacturer Part Number: RM-1238-B02-41
footprint RM-1238-B02-41_2
pins: 1, 2

## SML-LX0404SIUPGUSB
designator RGB?
LED Low-Power Tri-Color Blue/Green/Red 465nm/518nm/632nm 2.7V/2.75V/1.95V 4-Pin SMD T/R; Manufacturer: Lumex; Lens Color: Colorless; Lens Style: Square,Clear,Rectangular; Viewing Angle: 120°; Forward Current: 2mA; Luminous Intensity: 20mcd; Forward Voltage: 2.73V; Lens Transparency: Clear; Number of LEDs: 3; Wavelength: 465nm; Power Rating: 30mW; Reverse Voltage: 5V; Supplier: Mouser; Supplier Part Number: 696-LX0404SIUPGUSB; Manufacturer Part Number: SML-LX0404SIUPGUSB; RoHS: Yes; Category: LEDs; Stock: 113976; Pricing: 1=0.94, 10=0.633, 50=0.633, 100=0.518, 1000=0.444, 10000=0.371 (USD); Mounting Technology: Surface Mount; Case/Package: 0404; Color: Blue,Green,Red; Case Code (Metric): 1010; Case Code (Imperial): 0404; Min Operating Temperature: -40°C; Max Operating Temperature: 85°C; Packaging: Tape and Reel; Package Quantity: 2000; Test Current: 2mA; Series: -; Moisture Sensitivity Level: 4; Length: 1mm; Width: 1mm; Height: 0.3mm; Reach SVHC Compliant: No; Lead Free: Lead Free; RoHS Compliant: Yes; ComponentLink1URL: https://datasheet.ciiva.com/1246/1423960-1246392.pdf?src-supplier=Element14; ComponentLink1Description: https://datasheet.ciiva.com/1246/1423960-1246392.pdf?src-supplier=Element14; ComponentLink2URL: https://datasheet.ciiva.com/1333/lumex-quasarbrite-0404smdrgb-productbrochure-1333009.pdf?src-supplier=Newark; ComponentLink2Description: https://datasheet.ciiva.com/1333/lumex-quasarbrite-0404smdrgb-productbrochure-1333009.pdf?src-supplier=Newark; ComponentLink3URL: https://datasheet.ciiva.com/2118/sml-lx0404siupgusb-2118652.pdf?src-supplier=Digikey; ComponentLink3Description: https://datasheet.ciiva.com/2118/sml-lx0404siupgusb-2118652.pdf?src-supplier=Digikey; ComponentLink4URL: https://datasheet.ciiva.com/4689/sml-lx0404siupgusb-202559-4689572.pdf?src-supplier=Mouser; ComponentLink4Description: https://datasheet.ciiva.com/4689/sml-lx0404siupgusb-202559-4689572.pdf?src-supplier=Mouser; ComponentLink5URL: https://datasheet.ciiva.com/16199/sml-lx0404siupgusb-16199820.pdf?src-supplier=Future+Electronics; ComponentLink5Description: https://datasheet.ciiva.com/16199/sml-lx0404siupgusb-16199820.pdf?src-supplier=Future+Electronics; ComponentLink6URL: https://datasheet.ciiva.com/1246/1484526-1246779.pdf?src-supplier=Element14; ComponentLink6Description: https://datasheet.ciiva.com/1246/1484526-1246779.pdf?src-supplier=Element14; ComponentLink7URL: https://datasheet.ciiva.com/2118/sml-lx0404siupgusb-2118653.pdf?src-supplier=Digikey; ComponentLink7Description: https://datasheet.ciiva.com/2118/sml-lx0404siupgusb-2118653.pdf?src-supplier=Digikey; ComponentLink8URL: https://datasheet.ciiva.com/2118/sml-lx0404siupgusb-2118654.pdf?src-supplier=Digikey; ComponentLink8Description: https://datasheet.ciiva.com/2118/sml-lx0404siupgusb-2118654.pdf?src-supplier=Digikey; ComponentLink9URL: https://datasheet.ciiva.com/14604/70127422-14604949.pdf?src-supplier=Allied+Electronics; ComponentLink9Description: https://datasheet.ciiva.com/14604/70127422-14604949.pdf?src-supplier=Allied+Electronics
footprint SML-LX0404SIUPGUSB
pins: 1 A, 2 K, 3 K, 4 K

## SSQ-106-23-F-S
designator P?
Headers & Wire Housings Tiger Buy Socket Strip with Square Tails, 0.100 Pitch; Manufacturer: Samtec; Gender: Receptacle; Number of Contacts: 6; Pitch: 2.54mm; Supplier: Digikey; Supplier Part Number: SSQ-106-23-F-S-ND; Manufacturer Part Number: SSQ-106-23-F-S; RoHS: Yes; Category: Headers and Wire Housings; Stock: 84; Pricing: 1=1.54, 50=1.2, 100=0.97, 500=0.82, 1000=0.775 (USD); Mounting Technology: Through Hole; Contact Plating: Gold; Contact Material: Bronze; Packaging: Bulk; Number of Rows: 1; Termination: Solder; Series: SSQ; Radiation Hardening: No; Lead Free: Lead Free; RoHS Compliant: Yes; Reach SVHC Compliant: No; ComponentLink1URL: ftp://ftp.samtec.com/webfiles/PDF/SSQ_TH.PDF?src-supplier=Avnet; ComponentLink1Description: ftp://ftp.samtec.com/webfiles/PDF/SSQ_TH.PDF?src-supplier=Avnet; Supplier 1: Digikey; Supplier Part Number 1: SSQ-106-23-F-S-ND
footprint FP-SSQ-106-23-F-S-MFG
pins: 1, 2, 3, 4, 5, 6

## TESTPAD
designator TP?  (value not drawn)  (no BOM)
TESTPOINT PIN SMD; Category: Test and Measurement; Type: PC Test Point; Mounting Type: Surface Mount; Color: -
footprint TEST_PAD (TRST PAD with no connection)
pins: 1

## Touch-15Ch-Linear
designator Touch, comment NC
footprint Touch-15Ch-Linear
pins: 1, 2, 3, 4, 5, 6, 7, 8, 9, 10, 11, 12, 13, 14, 15

## TPS62840YBGR
designator U?
Conv DC-DC 1.8V to 6.5V Synchronous Step Down Single-Out 1.8V to 3.3V 0.75A 6-Pin DSBGA T/R; Manufacturer: Texas Instruments; Supplier: Mouser; Supplier Part Number: 595-TPS62840YBGR; Manufacturer Part Number: TPS62840YBGR; RoHS: Yes; Category: Voltage Regulators - Switching; Stock: 2271; Pricing: 1=1,97, 10=1,77, 50=1,77, 100=1,42, 1000=0,972, 10000=0,865 (USD); Supplier 1: Mouser; Supplier Part Number 1: 595-TPS62840YBGR
footprint BGA6C40P2X3_97X147X50 (BGA, 6-Leads, Body 0,97x1,47mmx0,50mm, Pitch 0,40mm)
pins: A1 GND (power), A2 VOS (power), B1 VIN (power), B2 SW (power), C1 EN (in), C2 VSET (power)

## TPSM831021SIUR
designator U?
1.5A output current, buck-boost MicroSiP™ power module with integrated inductor with I²C 8-uSiP -40 to 125; Manufacturer: Texas Instruments; Manufacturer Lifecycle Status: ACTIVE; Supplier: Mouser; Supplier Part Number: 595-TPSM831021SIUR; Manufacturer Part Number: TPSM831021SIUR; RoHS: Compliant; Category: Voltage Regulators - Switching; Stock: 2610; Pricing: 1=7.7, 10=6.91, 50=6.91, 100=5.66, 1000=4.06, 10000=3.86 (USD); Length: 2.6mm; Lifecycle Status: Production; Pins: 8; Thickness: 1.15mm; Topology: Buck-Boost; Width: 2mm; ComponentLink1URL: https://octopart.com:443/opatz8j6/c1?t=1vxQQwx7TOAj9FA5SAjYf-PM2GMohsbgC04BrqIyIUoGmA7zdRLwbkPi0-I8FrksUgPxUwbGCYWtwThYV-KnzQfz1oTrUxzeL5cOfaQnthmRq6ADpCLaHp5JrIbb6cgfJIMgeLAStVpvqMRJWc6Yal_MwBsyemKGdD71ihduhM8mRGYBabo_yu3Qx5wXw-xz84pVCfLzcr0zIMJbnrhY9ixfkLjguXZyMK1DFLb7NzaBV3N62BonJqonzahOnLJWkG214iKtXDOwsTkVLMpxpvY7ilA5fe2cf7_u5R_sEAjjMbnvkWUs-qzHlIvYXhlQIX-e4wdexaSxNG4YUph8zgYx4izLfMmtyaps11Lo0lWlOmAtv_UcgO7e3icqZp1421nsrlt2N-g&src-supplier=Texas+Instruments; ComponentLink1Description: https://octopart.com:443/opatz8j6/c1?t=1vxQQwx7TOAj9FA5SAjYf-PM2GMohsbgC04BrqIyIUoGmA7zdRLwbkPi0-I8FrksUgPxUwbGCYWtwThYV-KnzQfz1oTrUxzeL5cOfaQnthmRq6ADpCLaHp5JrIbb6cgfJIMgeLAStVpvqMRJWc6Yal_MwBsyemKGdD71ihduhM8mRGYBabo_yu3Qx5wXw-xz84pVCfLzcr0zIMJbnrhY9ixfkLjguXZyMK1DFLb7NzaBV3N62BonJqonzahOnLJWkG214iKtXDOwsTkVLMpxpvY7ilA5fe2cf7_u5R_sEAjjMbnvkWUs-qzHlIvYXhlQIX-e4wdexaSxNG4YUph8zgYx4izLfMmtyaps11Lo0lWlOmAtv_UcgO7e3icqZp1421nsrlt2N-g&src-supplier=Texas+Instruments; ComponentLink2URL: http://sigma.octopart.com:80/reach_statement/Texas-Instruments-company-64.pdf?src-supplier=Compliance+Statements; ComponentLink2Description: http://sigma.octopart.com:80/reach_statement/Texas-Instruments-company-64.pdf?src-supplier=Compliance+Statements; ComponentLink3URL: http://sigma.octopart.com:80/conflict_mineral_statement/Texas-Instruments-company-63.pdf?src-supplier=Compliance+Statements; ComponentLink3Description: http://sigma.octopart.com:80/conflict_mineral_statement/Texas-Instruments-company-63.pdf?src-supplier=Compliance+Statements; Supplier 1: Mouser; Supplier Part Number 1: 595-TPSM831021SIUR
footprint MICROSIP8_SIU-A_TEX-M
pins: 1 VIN (power), 2 GND (power), 3 GND (power), 4 VOUT (power), 5 SCL (io), 6 GND (power), 7 SDA (io), 8 EN (in)